# EAGLE library part IF_GPIO_EXP_MCP23017_EP (library !GPLIB_ACTIVE)
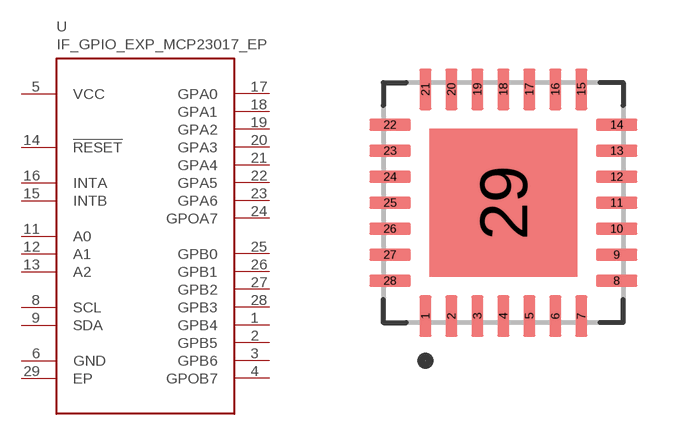
[diagram p132: symbol with the pads of QFN65P600X600X100-29N; footprint QFN65P600X600X100-29N]

Designator prefix U

## IF_GPIO_EXP_MCP23017_EP_MCP23017T-E/ML  [QFN65P600X600X100-29N]
1  GPB4
2  GPB5
3  GPB6
4  GPOB7  out
5  VCC  pwr
6  GND  pwr
8  SCL  in
9  SDA
11  A0  in
12  A1  in
13  A2  in
14  !RESET  in
15  INTB  out
16  INTA  out
17  GPA0
18  GPA1
19  GPA2
20  GPA3
21  GPA4
22  GPA5
23  GPA6
24  GPOA7  out
25  GPB0
26  GPB1
27  GPB2
28  GPB3
29  EP  pwr

## Footprint QFN65P600X600X100-29N (pad centres in mm)
smd 0.31 x 1.04: 1 -1.95,-2.835; 2 -1.3,-2.835; 3 -0.65,-2.835; 4 0,-2.835; 5 0.65,-2.835; 6 1.3,-2.835; 7 1.95,-2.835; 15 1.95,2.835; 16 1.3,2.835; 17 0.65,2.835; 18 0,2.835; 19 -0.65,2.835; 20 -1.3,2.835; 21 -1.95,2.835
smd 1.04 x 0.31: 8 2.835,-1.95; 9 2.835,-1.3; 10 2.835,-0.65; 11 2.835,0; 12 2.835,0.65; 13 2.835,1.3; 14 2.835,1.95; 22 -2.835,1.95; 23 -2.835,1.3; 24 -2.835,0.65; 25 -2.835,0; 26 -2.835,-0.65; 27 -2.835,-1.3; 28 -2.835,-1.95
smd 3.7 x 3.7: 29 0,0